# EAGLE library part MPU-9250 (library OSURC_Sensors)
9DOF (3mag, 3accel, 3gyro). SPI/I2C interface.
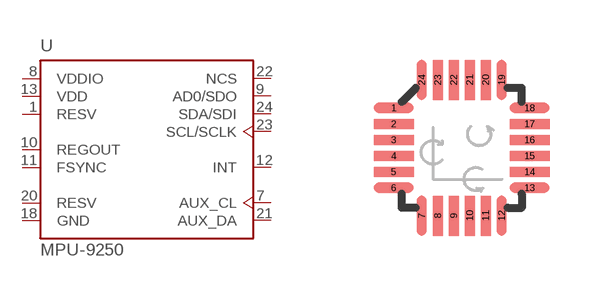
[diagram p1: symbol with the pads of QFN-24-NP-3X3MM; footprint QFN-24-NP-3X3MM]

Designator prefix U

## MPU-9250-QFN-24-NP (CDI_PN: MPU-9250)  [QFN-24-NP-3X3MM]
1  RESV
7  AUX_CL
8  VDDIO
9  AD0/SDO
10  REGOUT
11  FSYNC
12  INT
13  VDD
18  GND
20  RESV
21  AUX_DA
22  NCS
23  SCL/SCLK
24  SDA/SDI

## Footprint QFN-24-NP-3X3MM (pad centres in mm)
smd 1 x 0.25: 1 -1.7,1; 2 -1.7,0.6; 3 -1.7,0.2; 4 -1.7,-0.2; 5 -1.7,-0.6; 6 -1.7,-1; 13 1.7,-1; 14 1.7,-0.6; 15 1.7,-0.2; 16 1.7,0.2; 17 1.7,0.6; 18 1.7,1
smd 0.25 x 1: 7 -1,-1.7; 8 -0.6,-1.7; 9 -0.2,-1.7; 10 0.2,-1.7; 11 0.6,-1.7; 12 1,-1.7; 19 1,1.7; 20 0.6,1.7; 21 0.2,1.7; 22 -0.2,1.7; 23 -0.6,1.7; 24 -1,1.7